# EAGLE library part TM1650 (library Chip)
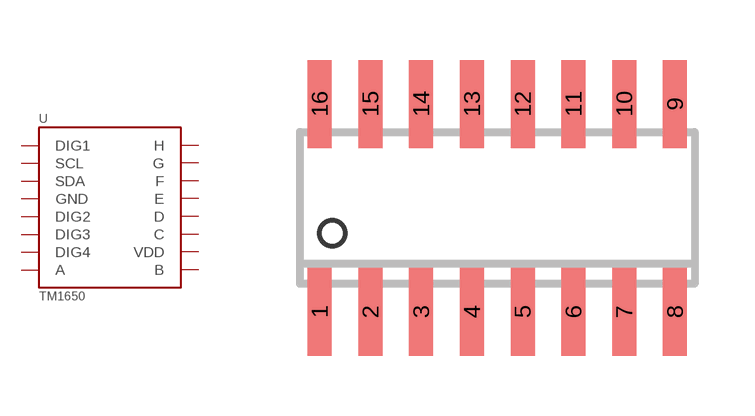
[diagram p9: symbol with the pads of SOP16; footprint SOP16]

Designator prefix -

## TM1650  [SOP16]
1  DIG1
2  SCL
3  SDA
4  GND
5  DIG2
6  DIG3
7  DIG4
8  A
9  B
10  VDD
11  C
12  D
13  E
14  F
15  G
16  H

## Footprint SOP16 (pad centres in mm)
SMALL OUTLINE INTEGRATED CIRCUIT body 3.9 mm/JEDEC MS-012AC
smd 0.6 x 2.2: 1 -4.445,-2.6; 2 -3.175,-2.6; 3 -1.905,-2.6; 4 -0.635,-2.6; 5 0.635,-2.6; 6 1.905,-2.6; 7 3.175,-2.6; 8 4.445,-2.6; 9 4.445,2.6; 10 3.175,2.6; 11 1.905,2.6; 12 0.635,2.6; 13 -0.635,2.6; 14 -1.905,2.6; 15 -3.175,2.6; 16 -4.445,2.6